# Altium footprint library Rowres.PcbLib: 1 footprints
Each footprint in its own frame and in the unit in brackets; x right, y up, seen from the top. Pads: shape width x height; smd on the part's side, far side on the other; paste and mask are expansions set on the pad; w line width, h text height; cw(c..) or ccw(c..) is an arc to the next point about the centre after c.
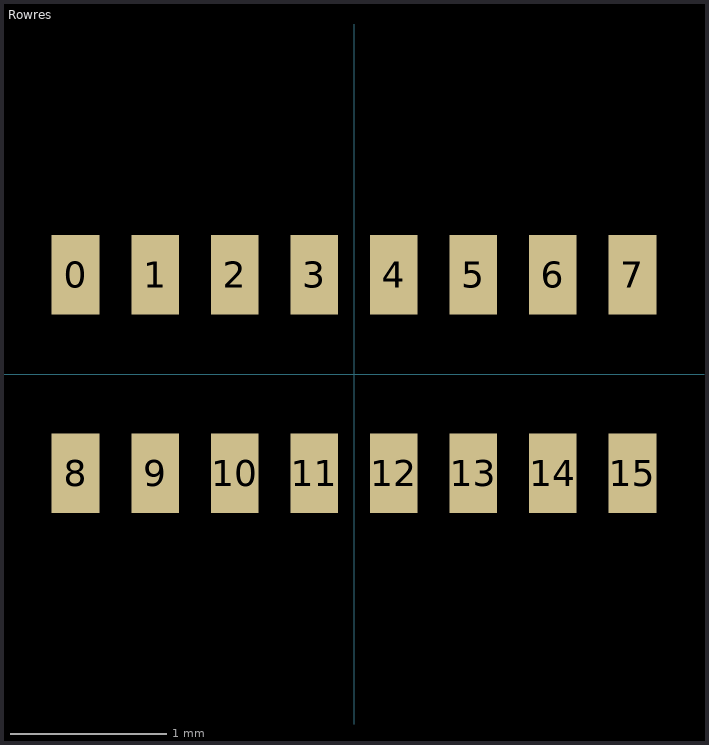
[diagram p0: the footprint, top view; thin cyan lines are the x and y axes]

## Rowres [mil] "Row resistor, 8"
pads (16):
  rect 12x20 smd: 0(-70,25) 1(-50,25) 2(-30,25) 3(-10,25) 4(10,25) 5(30,25) 6(50,25) 7(70,25) 8(-70,-25) 9(-50,-25) 10(-30,-25) 11(-10,-25) 12(10,-25) 13(30,-25) 14(50,-25) 15(70,-25)
3D body: height 14, standoff 0, extent -75,-25 75,25
3D body: height 16, standoff 0, extent -66,-31.5 -54,31.5
3D body: height 16, standoff 0, extent -46,-31.5 -34,31.5
3D body: height 16, standoff 0, extent -26,-31.5 -14,31.5
3D body: height 16, standoff 0, extent -6,-31.5 6,31.5
3D body: height 16, standoff 0, extent 14,-31.5 26,31.5
3D body: height 16, standoff 0, extent 34,-31.5 46,31.5
3D body: height 16, standoff 0, extent 54,-31.5 66,31.5
3D body: height 16, standoff 0, extent -86,-31.5 -74,31.5
3D body: height 16, standoff 0, extent 74,-31.5 86,31.5
3D body: height 20, standoff 0, extent -80,-19.5 80,19.5